# EAGLE library part DF40C-60DS-0.4V_51__LCSC (library lcsc_parts)
Description: nan Manufacturer: HRS MPN: DF40C-60DS-0.4V(51) LCSC Part: C597938 Category: Arrays, Edge Type, Mezzanine (Board to Board) Datasheet: https://datasheet.lcsc.com/datasheet/pdf/64263735f593df7939d34534ad34b7d6.pdf?productCode=C597938
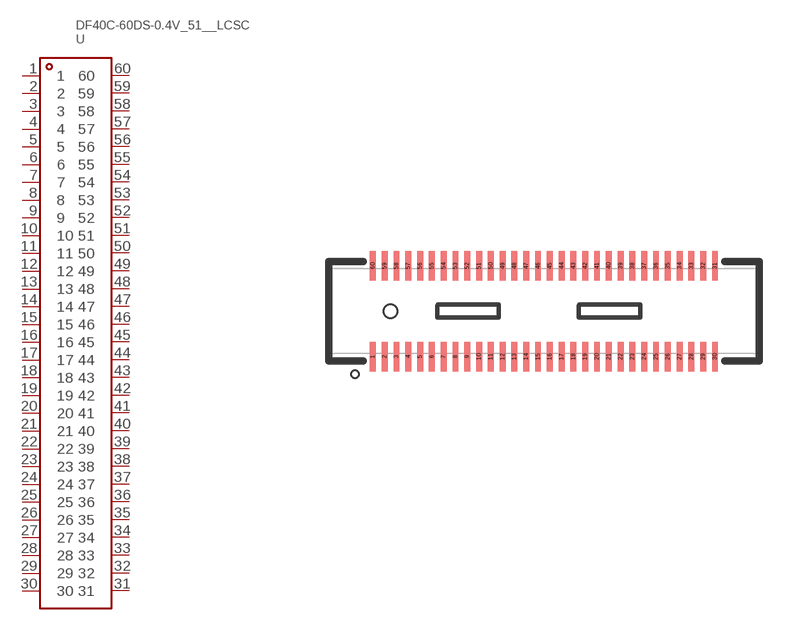
[diagram p12: symbol with the pads of CONN-SMD_DF40C-60DS-0.4V-51; footprint CONN-SMD_DF40C-60DS-0.4V-51]

Designator prefix U

## DF40C-60DS-0.4V_51__LCSC (CATEGORY: Arrays, Edge Type, Mezzanine (Board to Board); CONTACT_PLATING: Gold; CURRENT_RATING_MAX: 300mA; DATASHEET: https://datasheet.lcsc.com/datasheet/pdf/64263735f593df7939d34534ad34b7d6.pdf?productCode=C597938; DESCRIPTION: nan; LCSC_PART: C597938; LCSC_STOCK: 17996; MANUFACTURER: HRS; MOUNTING_TYPE: Surface Mount,Vertical; MPN: DF40C-60DS-0.4V(51); NUMBER_OF_PINS: 60P; NUMBER_OF_ROWS: 2; OPERATING_TEMPERATURE: -35℃~+85℃; PARTNO: DF40C-60DS-0.4V(51); PITCH: 0.4mm; PRICING_1000: $0.3318/unit @ 1000; PRICING_50: $0.4684/unit @ 50)  [CONN-SMD_DF40C-60DS-0.4V-51]
1  1
2  2
3  3
4  4
5  5
6  6
7  7
8  8
9  9
10  10
11  11
12  12
13  13
14  14
15  15
16  16
17  17
18  18
19  19
20  20
21  21
22  22
23  23
24  24
25  25
26  26
27  27
28  28
29  29
30  30
31  31
32  32
33  33
34  34
35  35
36  36
37  37
38  38
39  39
40  40
41  41
42  42
43  43
44  44
45  45
46  46
47  47
48  48
49  49
50  50
51  51
52  52
53  53
54  54
55  55
56  56
57  57
58  58
59  59
60  60

## Footprint CONN-SMD_DF40C-60DS-0.4V-51 (pad centres in mm)
smd 0.2 x 1: 1 -5.8,-1.54; 2 -5.4,-1.54; 3 -5,-1.54; 4 -4.6,-1.54; 5 -4.2,-1.54; 6 -3.8,-1.54; 7 -3.4,-1.54; 8 -3,-1.54; 9 -2.6,-1.54; 10 -2.2,-1.54; 11 -1.8,-1.54; 12 -1.4,-1.54; 13 -1,-1.54; 14 -0.6,-1.54; 15 -0.2,-1.54; 16 0.2,-1.54; 17 0.6,-1.54; 18 1,-1.54; 19 1.4,-1.54; 20 1.8,-1.54; 21 2.2,-1.54; 22 2.6,-1.54; 23 3,-1.54; 24 3.4,-1.54; 25 3.8,-1.54; 26 4.2,-1.54; 27 4.6,-1.54; 28 5,-1.54; 29 5.4,-1.54; 30 5.8,-1.54; 31 5.8,1.54; 32 5.4,1.54; 33 5,1.54; 34 4.6,1.54; 35 4.2,1.54; 36 3.8,1.54; 37 3.4,1.54; 38 3,1.54; 39 2.6,1.54; 40 2.2,1.54; 41 1.8,1.54; 42 1.4,1.54; 43 1,1.54; 44 0.6,1.54; 45 0.2,1.54; 46 -0.2,1.54; 47 -0.6,1.54; 48 -1,1.54; 49 -1.4,1.54; 50 -1.8,1.54; 51 -2.2,1.54; 52 -2.6,1.54; 53 -3,1.54; 54 -3.4,1.54; 55 -3.8,1.54; 56 -4.2,1.54; 57 -4.6,1.54; 58 -5,1.54; 59 -5.4,1.54; 60 -5.8,1.54